# Altium footprint library QQ2440V3封装库.PcbLib: 50 footprints (part 2 of 4)
Each footprint in its own frame and in the unit in brackets; x right, y up, seen from the top. Pads: shape width x height; smd on the part's side, far side on the other; paste and mask are expansions set on the pad; w line width, h text height; cw(c..) or ccw(c..) is an arc to the next point about the centre after c.
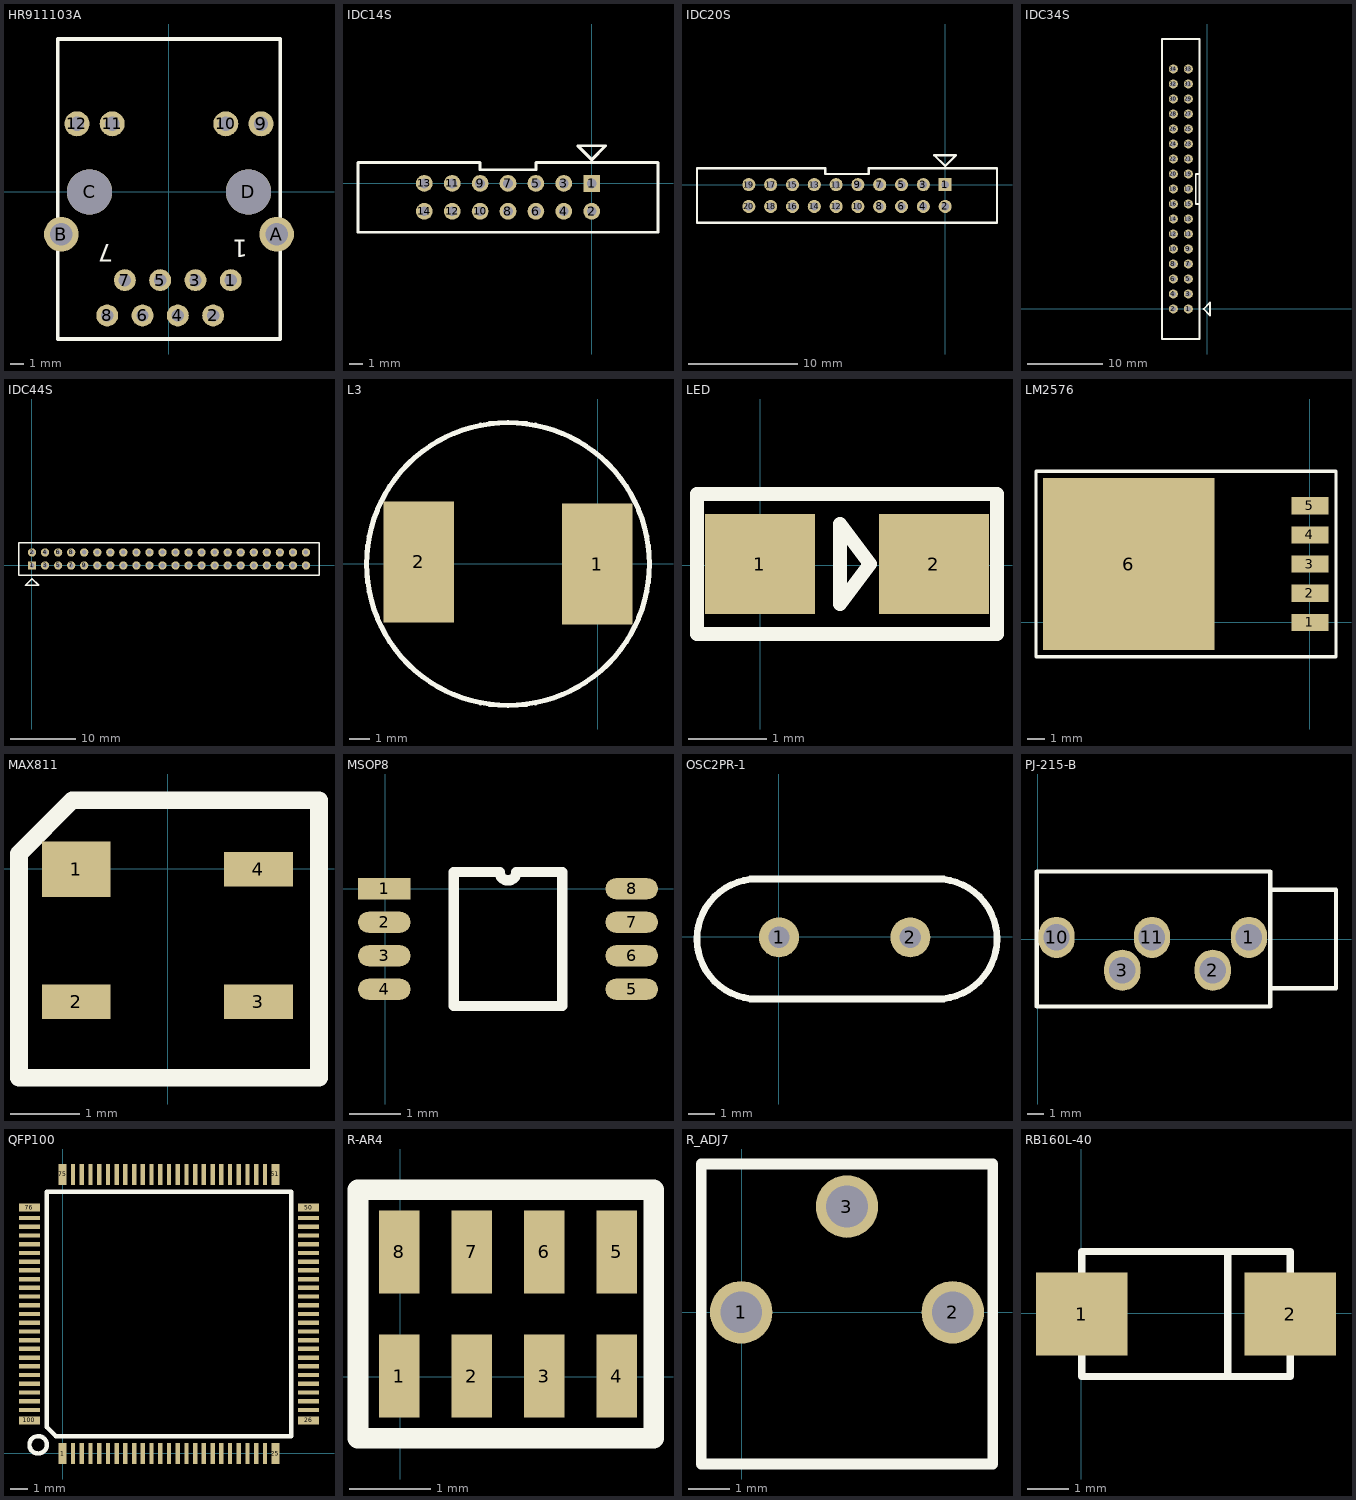
[diagram p1: the footprints below, top view; thin cyan lines are the x and y axes]

## HR911103A [mm]
pads (16):
  round 1.575 hole 0.889: 1(4.449,-6.345) 2(3.179,-8.885) 3(1.909,-6.345) 4(0.639,-8.885) 5(-0.631,-6.345) 6(-1.901,-8.885) 7(-3.171,-6.345) 8(-4.441,-8.885)
  round 1.8 hole 1.02: 9(6.629,4.905) 10(4.089,4.905) 11(-4.081,4.905) 12(-6.621,4.905)
  round 2.5 hole 1.63: A(7.749,-3.045) B(-7.741,-3.045)
  round 3.25 hole 3.25: C(-5.711,0.005) D(5.719,0.005)
TopOverlay:
  lines w0.254: -7.996,-10.578 8.004,-10.578 8.004,11.005 -7.996,11.005 -7.996,-10.578
  text "7" at -3.995,-3.778 h1.27
  text "1" at 5.664,-3.446 h1.27

## IDC14S [mm]
pads (14):
  rect 1.2x1.2 hole 0.7: 1(-0.005,0.001)
  round 1.2 hole 0.7: 2(-0.005,-1.999) 3(-2.005,0.001) 4(-2.005,-1.999) 5(-4.005,0.001) 6(-4.005,-1.999) 7(-6.005,0.001) 8(-6.005,-1.999) 9(-8.005,0.001) 10(-8.005,-1.999) 11(-10.005,0.001) 12(-10.005,-1.999) 13(-12.005,0.001) 14(-12.005,-1.999)
TopOverlay:
  lines w0.2: -16.755,-3.499 4.745,-3.499 4.745,1.501 -4.005,1.501 -4.005,0.976 -8.005,0.976 -8.005,1.501 -16.755,1.501 -16.755,-3.499 ; -1.005,2.701 0.995,2.701 -0.005,1.701 -1.005,2.701

## IDC20S [mm]
pads (20):
  rect 1.2x1.2 hole 0.7: 1(-0.008,0.023)
  round 1.2 hole 0.7: 2(-0.008,-1.977) 3(-2.008,0.023) 4(-2.008,-1.977) 5(-4.008,0.023) 6(-4.008,-1.977) 7(-6.008,0.023) 8(-6.008,-1.977) 9(-8.008,0.023) 10(-8.008,-1.977) 11(-10.008,0.023) 12(-10.008,-1.977) 13(-12.008,0.023) 14(-12.008,-1.977) 15(-14.008,0.023) 16(-14.008,-1.977) 17(-16.008,0.023) 18(-16.008,-1.977) 19(-18.008,0.023) 20(-18.008,-1.977)
TopOverlay:
  lines w0.2: -22.758,-3.477 -22.758,1.523 -11.008,1.523 -11.008,0.998 -7.008,0.998 -7.008,1.523 4.742,1.523 4.742,-3.477 -22.758,-3.477 ; -1.008,2.723 -0.008,1.723 0.992,2.723 -1.008,2.723

## IDC34S [mm]
pads (34):
  round 1.2 hole 0.7: 1(-2.506,0.004) 2(-4.506,0.004) 3(-2.506,2.004) 4(-4.506,2.004) 5(-2.506,4.004) 6(-4.506,4.004) 7(-2.506,6.004) 8(-4.506,6.004) 9(-2.506,8.004) 10(-4.506,8.004) 11(-2.506,10.004) 12(-4.506,10.004) 13(-2.506,12.004) 14(-4.506,12.004) 15(-2.506,14.004) 16(-4.506,14.004) 17(-2.506,16.004) 18(-4.506,16.004) 19(-2.506,18.004) 20(-4.506,18.004) 21(-2.506,20.004) 22(-4.506,20.004) 23(-2.506,22.004) 24(-4.506,22.004) 25(-2.506,24.004) 26(-4.506,24.004) 27(-2.506,26.004) 28(-4.506,26.004) 29(-2.506,28.004) 30(-4.506,28.004) 31(-2.506,30.004) 32(-4.506,30.004) 33(-2.506,32.004) 34(-4.506,32.004)
TopOverlay:
  lines w0.254: -6.007,-4.003 -1.007,-4.003 ; -6.006,-4.003 -6.006,35.997 -1.006,35.997 -1.006,-4.003 ; -1.006,13.996 -1.514,13.996 -1.514,17.996 -1.006,17.996 ; -0.482,-0.003 0.368,0.847 0.368,-0.853 -0.482,-0.003

## IDC44S [mm]
pads (44):
  rect 1.27x1.27 hole 0.7: 1(0.011,-0.004)
  round 1.27 hole 0.7: 2(0.011,1.996) 3(2.011,-0.004) 4(2.011,1.996) 5(4.011,-0.004) 6(4.011,1.996) 7(6.011,-0.004) 8(6.011,1.996) 9(8.011,-0.004) 10(8.011,1.996) 11(10.011,-0.004) 12(10.011,1.996) 13(12.011,-0.004) 14(12.011,1.996) 15(14.011,-0.004) 16(14.011,1.996) 17(16.011,-0.004) 18(16.011,1.996) 19(18.011,-0.004) 20(18.011,1.996) 21(20.011,-0.004) 22(20.011,1.996) 23(22.011,-0.004) 24(22.011,1.996) 25(24.011,-0.004) 26(24.011,1.996) 27(26.011,-0.004) 28(26.011,1.996) 29(28.011,-0.004) 30(28.011,1.996) 31(30.011,-0.004) 32(30.011,1.996) 33(32.011,-0.004) 34(32.011,1.996) 35(34.011,-0.004) 36(34.011,1.996) 37(36.011,-0.004) 38(36.011,1.996) 39(38.011,-0.004) 40(38.011,1.996) 41(40.011,-0.004) 42(40.011,1.996) 43(42.011,-0.004) 44(42.011,1.996)
TopOverlay:
  lines w0.2: -1.989,-1.504 44.011,-1.504 44.011,3.496 -1.989,3.496 -1.989,-1.504
  lines w0.254: -1.005,-3.052 1.027,-3.052 0.011,-2.036 -1.005,-3.052

## L3 [mm]
pads (2):
  rect 3.5x6 smd: 1(-0.017,-0.009) 2(-8.867,0.091)
TopOverlay:
  circle w0.254: c-4.442,-0.009 r7

## LED [mm]
pads (2):
  rect 1.4x1.27 smd: 1(-0.003,0.013) 2(2.207,0.013)
TopOverlay:
  lines w0.178: 3.008,0.902 3.007,0.902 ; 3.007,0.902 -0.803,0.902 -0.803,0.013 -0.803,-0.876 3.007,-0.876 3.007,0.902 ; 1.013,-0.495 1.394,0.013 1.013,0.521 1.013,-0.495

## LM2576 [mm]
pads (6):
  rect 2.16x1 smd: 1(0.003,-0.02) 2(0.003,1.68) 3(0.003,3.38) 4(0.003,5.08) 5(0.003,6.78)
  rect 10x10 smd: 6(-10.547,3.38)
TopOverlay:
  lines w0.2: -5.601,-2.016 -15.951,-2.016 -15.951,8.784 -5.541,8.784
  lines w0.203: -5.601,-2.016 1.524,-2.016 1.524,8.784 -5.541,8.784

## MAX811 [mm]
pads (4):
  rect 1x0.8 smd: 1(-1.325,-0.004)
  rect 1x0.5 smd: 2(-1.325,-1.924) 3(1.315,-1.924) 4(1.315,-0.004)
TopOverlay:
  lines w0.254: -2.155,-3.029 -2.155,0.221 -1.38,0.996 2.195,0.996 2.195,-3.029 -2.155,-3.029

## MSOP8 [mm]
pads (8):
  rect 1.02x0.41 smd: 1(-0.017,-0.002)
  oval 1.02x0.41 smd: 2(-0.017,-0.652) 3(-0.017,-1.302) 4(-0.017,-1.952) 5(4.783,-1.952) 6(4.783,-1.302) 7(4.783,-0.652) 8(4.783,-0.002)
TopOverlay:
  lines w0.2: 1.328,-2.277 1.328,0.323 2.22,0.323 ccw(c2.383,0.323) 2.545,0.323 3.438,0.323 3.438,-2.277 1.328,-2.277

## OSC2PR-1 [mil]
pads (2):
  round 60 hole 32: 1(0.17,-0.98) 2(197.17,-0.98)
TopOverlay:
  lines w10: -42.83,-93.48 247.17,-93.48 ; -42.83,86.52 247.17,86.52 ; -32.83,-93.48 cw(c-32.83,-3.48) -32.83,86.52 ; 237.17,-93.48 ccw(c237.17,-3.48) 237.17,86.52

## PJ-215-B [mm]
pads (5):
  oval 2.2x2.5 hole 1.6: 1(12.854,0.113) 2(10.654,-1.887) 3(5.154,-1.887) 10(1.154,0.113) 11(6.954,0.113)
TopOverlay:
  lines w0.254: 14.154,-2.987 18.154,-2.987 18.154,3.013 14.154,3.013 ; -0.046,-4.087 -0.046,4.113 14.154,4.113 14.154,-4.087 -0.046,-4.087

## QFP100 [mm]
pads (100):
  rect 0.45x1.2 smd: 1(-0.008,-0.004) 25(12.192,-0.004) 51(12.192,15.996) 75(-0.008,15.996)
  rect 0.25x1.2 smd: 2(0.592,-0.004) 3(1.092,-0.004) 4(1.592,-0.004) 5(2.092,-0.004) 6(2.592,-0.004) 7(3.092,-0.004) 8(3.592,-0.004) 9(4.092,-0.004) 10(4.592,-0.004) 11(5.092,-0.004) 12(5.592,-0.004) 13(6.092,-0.004) 14(6.592,-0.004) 15(7.092,-0.004) 16(7.592,-0.004) 17(8.092,-0.004) 18(8.592,-0.004) 19(9.092,-0.004) 20(9.592,-0.004) 21(10.092,-0.004) 22(10.592,-0.004) 23(11.092,-0.004) 24(11.592,-0.004) 52(11.592,15.996) 53(11.092,15.996) 54(10.592,15.996) 55(10.092,15.996) 56(9.592,15.996) 57(9.092,15.996) 58(8.592,15.996) 59(8.092,15.996) 60(7.592,15.996) 61(7.092,15.996) 62(6.592,15.996) 63(6.092,15.996) 64(5.592,15.996) 65(5.092,15.996) 66(4.592,15.996) 67(4.092,15.996) 68(3.592,15.996) 69(3.092,15.996) 70(2.592,15.996) 71(2.092,15.996) 72(1.592,15.996) 73(1.092,15.996) 74(0.592,15.996)
  rect 1.2x0.45 smd: 26(14.092,1.896) 50(14.092,14.096) 76(-1.908,14.096) 100(-1.908,1.896)
  rect 1.2x0.25 smd: 27(14.092,2.496) 28(14.092,2.996) 29(14.092,3.496) 30(14.092,3.996) 31(14.092,4.496) 32(14.092,4.996) 33(14.092,5.496) 34(14.092,5.996) 35(14.092,6.496) 36(14.092,6.996) 37(14.092,7.496) 38(14.092,7.996) 39(14.092,8.496) 40(14.092,8.996) 41(14.092,9.496) 42(14.092,9.996) 43(14.092,10.496) 44(14.092,10.996) 45(14.092,11.496) 46(14.092,11.996) 47(14.092,12.496) 48(14.092,12.996) 49(14.092,13.496) 77(-1.908,13.496) 78(-1.908,12.996) 79(-1.908,12.496) 80(-1.908,11.996) 81(-1.908,11.496) 82(-1.908,10.996) 83(-1.908,10.496) 84(-1.908,9.996) 85(-1.908,9.496) 86(-1.908,8.996) 87(-1.908,8.496) 88(-1.908,7.996) 89(-1.908,7.496) 90(-1.908,6.996) 91(-1.908,6.496) 92(-1.908,5.996) 93(-1.908,5.496) 94(-1.908,4.996) 95(-1.908,4.496) 96(-1.908,3.996) 97(-1.908,3.496) 98(-1.908,2.996) 99(-1.908,2.496)
TopOverlay:
  circle w0.254: c-1.408,0.496 r0.5
  lines w0.254: -0.908,1.496 -0.408,0.996 13.092,0.996 13.092,14.996 -0.908,14.996 -0.908,1.496

## R-AR4 [mm]
pads (8):
  rect 0.5x1.016 smd: 1(-0.012,0.011) 2(0.877,0.011) 3(1.766,0.011) 4(2.655,0.011) 5(2.655,1.535) 6(1.766,1.535) 7(0.877,1.535) 8(-0.012,1.535)
TopOverlay:
  lines w0.254: 3.061,-0.751 -0.52,-0.751 -0.52,2.297 3.112,2.297 3.112,-0.751

## R_ADJ7 [mm]
pads (3):
  round 1.5 hole 1: 1(-0.01,0.002) 2(5.07,0.002) 3(2.53,2.542)
TopOverlay:
  lines w0.254: -0.97,-3.638 6.03,-3.638 6.03,3.562 -0.97,3.562 -0.97,-3.598

## RB160L-40 [mm]
pads (2):
  rect 2.2x2 smd: 1(0.019,-0.022) 2(5.019,-0.022)
TopOverlay:
  lines w0.178: 0.019,-1.022 0.019,-1.522 5.019,-1.522 5.019,-1.022 ; 0.019,0.978 0.019,1.478 5.019,1.478 5.019,0.978 ; 3.519,-1.522 3.519,1.478